# Altium schematic symbol library USBLC6-2.Schlib: 1 symbol
Pins are listed as number, name and electrical type; pins without a type are passive.

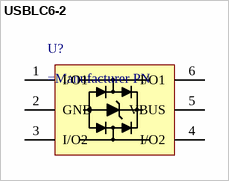
[diagram p0: symbol USBLC6-2]

## USBLC6-2
designator U?
ESD Protection diodes
pins: 1 I/O1, 2 GND, 3 I/O2, 4 I/O2, 5 VBUS, 6 I/O1